# EAGLE library part RESISTOR-ARRAY-4 (library BaseApp)
Resistor Array
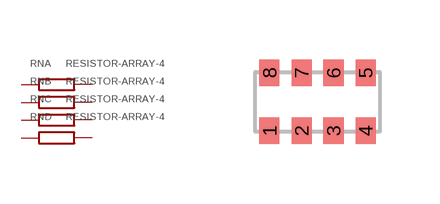
[diagram p19: symbol with the pads of RESISTOR-ARRAY-4-1206; footprint RESISTOR-ARRAY-4-1206]

Designator prefix RN; gates A=R-ARRAY-4 B=R-ARRAY-4 C=R-ARRAY-4 D=R-ARRAY-4

## RESISTOR-ARRAY-4-10K-1/16W (DIGIKEY: 742C083103JPCT-ND; PRICE_PER_UNIT: 0.1)  [RESISTOR-ARRAY-4-1206]
1  A:1  pas
2  B:1  pas
3  C:1  pas
4  D:1  pas
5  D:2  pas
6  C:2  pas
7  B:2  pas
8  A:2  pas

## RESISTOR-ARRAY-4-22R_1/16W (DIGIKEY: CRA6S822CT-ND; PRICE_PER_UNIT: 0.1)  [RESISTOR-ARRAY-4-1206]
Pads as for RESISTOR-ARRAY-4-1206

## RESISTOR-ARRAY-4-68K_1/16W (DIGIKEY: CAT16-683J4LFCT-ND; PRICE_PER_UNIT: 0.1)  [RESISTOR-ARRAY-4-1206]
Pads as for RESISTOR-ARRAY-4-1206

## Footprint RESISTOR-ARRAY-4-1206 (pad centres in mm)
smd 0.5 x 0.65: 1 -1.2,-0.725; 2 -0.4,-0.725; 3 0.4,-0.725; 4 1.2,-0.725; 5 1.2,0.725; 6 0.4,0.725; 7 -0.4,0.725; 8 -1.2,0.725